# EAGLE library part 1X14 (library Ai_Connectors)
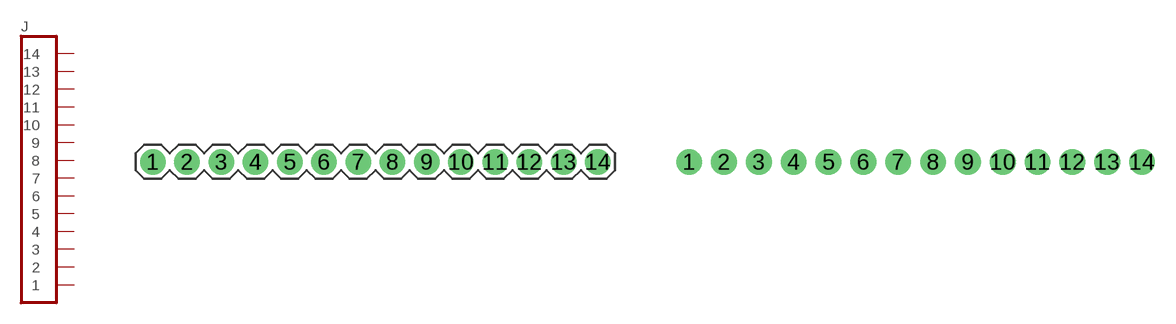
[diagram p7: symbol with the pads of 1X14; footprints 1X14, 1X14-NOSILK]

Designator prefix J

## 1X14  [1X14]
1  1
2  2
3  3
4  4
5  5
6  6
7  7
8  8
9  9
10  10
11  11
12  12
13  13
14  14

## 1X14NOSILK  [1X14-NOSILK]
Pads as for 1X14

## 1X14SMD  [1X14-SMD]
Pads as for 1X14

## Footprint 1X14 (pad centres in mm)
drill 1.016 pad 1.88: 1 -15.24,0; 2 -12.7,0; 3 -10.16,0; 4 -7.62,0; 5 -5.08,0; 6 -2.54,0; 7 0,0; 8 2.54,0; 9 5.08,0; 10 7.62,0; 11 10.16,0; 12 12.7,0; 13 15.24,0; 14 17.78,0

## Footprint 1X14-NOSILK (pad centres in mm)
drill 1.016 pad 1.88: 1 -16.51,0; 2 -13.97,0; 3 -11.43,0; 4 -8.89,0; 5 -6.35,0; 6 -3.81,0; 7 -1.27,0; 8 1.27,0; 9 3.81,0; 10 6.35,0; 11 8.89,0; 12 11.43,0; 13 13.97,0; 14 16.51,0

## Footprint 1X14-SMD (pad centres in mm)
smd 1.27 x 5.334: 1 -16.51,-2.032; 2 -13.97,2.032; 3 -11.43,-2.032; 4 -8.89,2.032; 5 -6.35,-2.032; 6 -3.81,2.032; 7 -1.27,-2.032; 8 1.27,2.032; 9 3.81,-2.032; 10 6.35,2.032; 11 8.89,-2.032; 12 11.43,2.032; 13 13.97,-2.032; 14 16.51,2.032